# EAGLE library part 4003EPC84 (library XILINX)
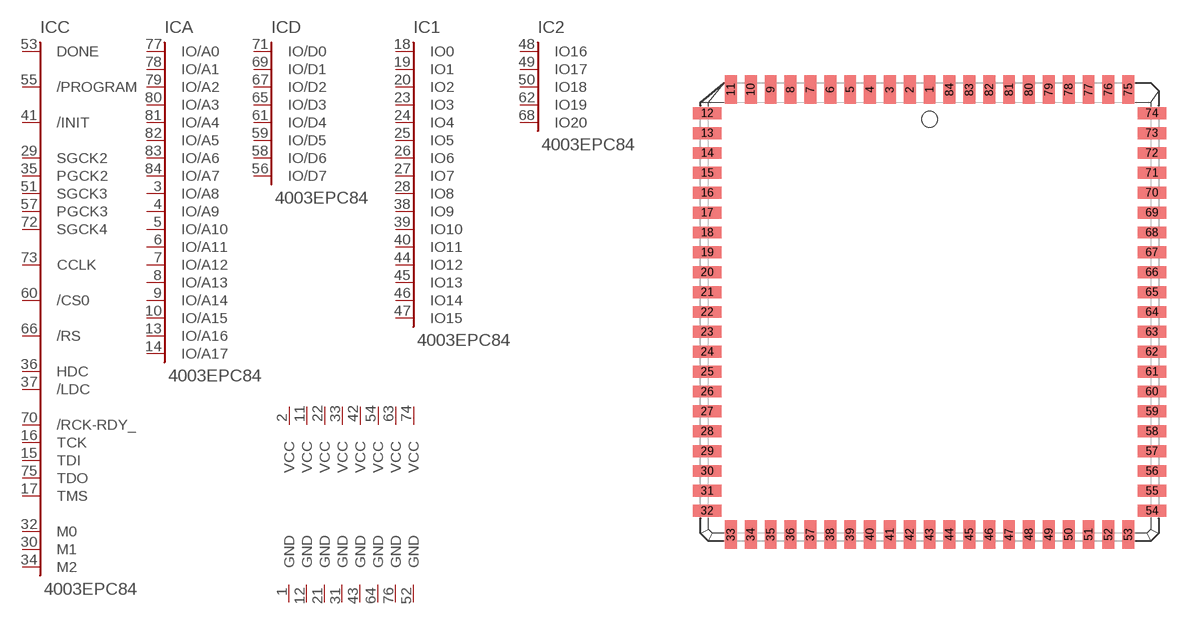
[diagram p13: symbol with the pads of PC84; footprint PC84]

Designator prefix IC; gates A=XC4-A17 D=XC4-D 1=XC4-IO16 2=XC4-IO20 V1=VCC V2=VCC V3=VCC V4=VCC V5=VCC V6=VCC V7=VCC V8=VCC G1=GND G2=GND G3=GND G4=GND G5=GND G6=GND G7=GND G8=GND C=4003-C84

## 4003EPC84  [PC84]
1  G1:GND  pwr
2  V1:VCC  pwr
3  A:IO/A8
4  A:IO/A9
5  A:IO/A10
6  A:IO/A11
7  A:IO/A12
8  A:IO/A13
9  A:IO/A14
10  A:IO/A15
11  V2:VCC  pwr
12  G2:GND  pwr
13  A:IO/A16
14  A:IO/A17
15  C:TDI
16  C:TCK
17  C:TMS
18  1:IO0
19  1:IO1
20  1:IO2
21  G3:GND  pwr
22  V3:VCC  pwr
23  1:IO3
24  1:IO4
25  1:IO5
26  1:IO6
27  1:IO7
28  1:IO8
29  C:SGCK2
30  C:M1  out
31  G4:GND  pwr
32  C:M0  in
33  V4:VCC  pwr
34  C:M2  in
35  C:PGCK2
36  C:HDC
37  C:/LDC
38  1:IO9
39  1:IO10
40  1:IO11
41  C:/INIT
42  V5:VCC  pwr
43  G5:GND  pwr
44  1:IO12
45  1:IO13
46  1:IO14
47  1:IO15
48  2:IO16
49  2:IO17
50  2:IO18
51  C:SGCK3
52  G8:GND  pwr
53  C:DONE
54  V6:VCC  pwr
55  C:/PROGRAM
56  D:IO/D7
57  C:PGCK3
58  D:IO/D6
59  D:IO/D5
60  C:/CS0
61  D:IO/D4
62  2:IO19
63  V7:VCC  pwr
64  G6:GND  pwr
65  D:IO/D3
66  C:/RS
67  D:IO/D2
68  2:IO20
69  D:IO/D1
70  C:/RCK-RDY_
71  D:IO/D0
72  C:SGCK4
73  C:CCLK
74  V8:VCC  pwr
75  C:TDO
76  G7:GND  pwr
77  A:IO/A0
78  A:IO/A1
79  A:IO/A2
80  A:IO/A3
81  A:IO/A4
82  A:IO/A5
83  A:IO/A6
84  A:IO/A7

## Footprint PC84 (pad centres in mm)
smd 0.76 x 1.8: 1 0,12.94; 2 -1.27,12.94; 3 -2.54,12.94; 4 -3.81,12.94; 5 -5.08,12.94; 6 -6.35,12.94; 7 -7.62,12.94; 8 -8.89,12.94; 9 -10.16,12.94; 10 -11.43,12.94; 11 -12.7,12.94; 33 -12.7,-15.48; 34 -11.43,-15.48; 35 -10.16,-15.48; 36 -8.89,-15.48; 37 -7.62,-15.48; 38 -6.35,-15.48; 39 -5.08,-15.48; 40 -3.81,-15.48; 41 -2.54,-15.48; 42 -1.27,-15.48; 43 0,-15.48; 44 1.27,-15.48; 45 2.54,-15.48; 46 3.81,-15.48; 47 5.08,-15.48; 48 6.35,-15.48; 49 7.62,-15.48; 50 8.89,-15.48; 51 10.16,-15.48; 52 11.43,-15.48; 53 12.7,-15.48; 75 12.7,12.94; 76 11.43,12.94; 77 10.16,12.94; 78 8.89,12.94; 79 7.62,12.94; 80 6.35,12.94; 81 5.08,12.94; 82 3.81,12.94; 83 2.54,12.94; 84 1.27,12.94
smd 1.8 x 0.76: 12 -14.21,11.43; 13 -14.21,10.16; 14 -14.21,8.89; 15 -14.21,7.62; 16 -14.21,6.35; 17 -14.21,5.08; 18 -14.21,3.81; 19 -14.21,2.54; 20 -14.21,1.27; 21 -14.21,0; 22 -14.21,-1.27; 23 -14.21,-2.54; 24 -14.21,-3.81; 25 -14.21,-5.08; 26 -14.21,-6.35; 27 -14.21,-7.62; 28 -14.21,-8.89; 29 -14.21,-10.16; 30 -14.21,-11.43; 31 -14.21,-12.7; 32 -14.21,-13.97; 54 14.21,-13.97; 55 14.21,-12.7; 56 14.21,-11.43; 57 14.21,-10.16; 58 14.21,-8.89; 59 14.21,-7.62; 60 14.21,-6.35; 61 14.21,-5.08; 62 14.21,-3.81; 63 14.21,-2.54; 64 14.21,-1.27; 65 14.21,0; 66 14.21,1.27; 67 14.21,2.54; 68 14.21,3.81; 69 14.21,5.08; 70 14.21,6.35; 71 14.21,7.62; 72 14.21,8.89; 73 14.21,10.16; 74 14.21,11.43